# Altium schematic symbol library HDR-M-2.54_1x6.SchLib: 1 symbol
Pins are listed as number, name and electrical type; pins without a type are passive.

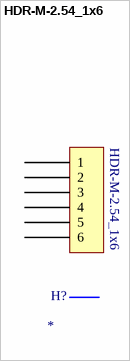
[diagram p0: symbol HDR-M-2.54_1x6]

## HDR-M-2.54_1x6
designator  H?
6-pin in-line pin connector, 2.54 mm pitch, Male type
pins: #DTR 5, #VCC 1, GND 2, RTS 6, RXD 4, TXD 3